# Altium footprint library Connector_Molex.PcbLib: 815 footprints (part 1 of 51)
Each footprint in its own frame and in the unit in brackets; x right, y up, seen from the top. Pads: shape width x height; smd on the part's side, far side on the other; paste and mask are expansions set on the pad; w line width, h text height; cw(c..) or ccw(c..) is an arc to the next point about the centre after c.
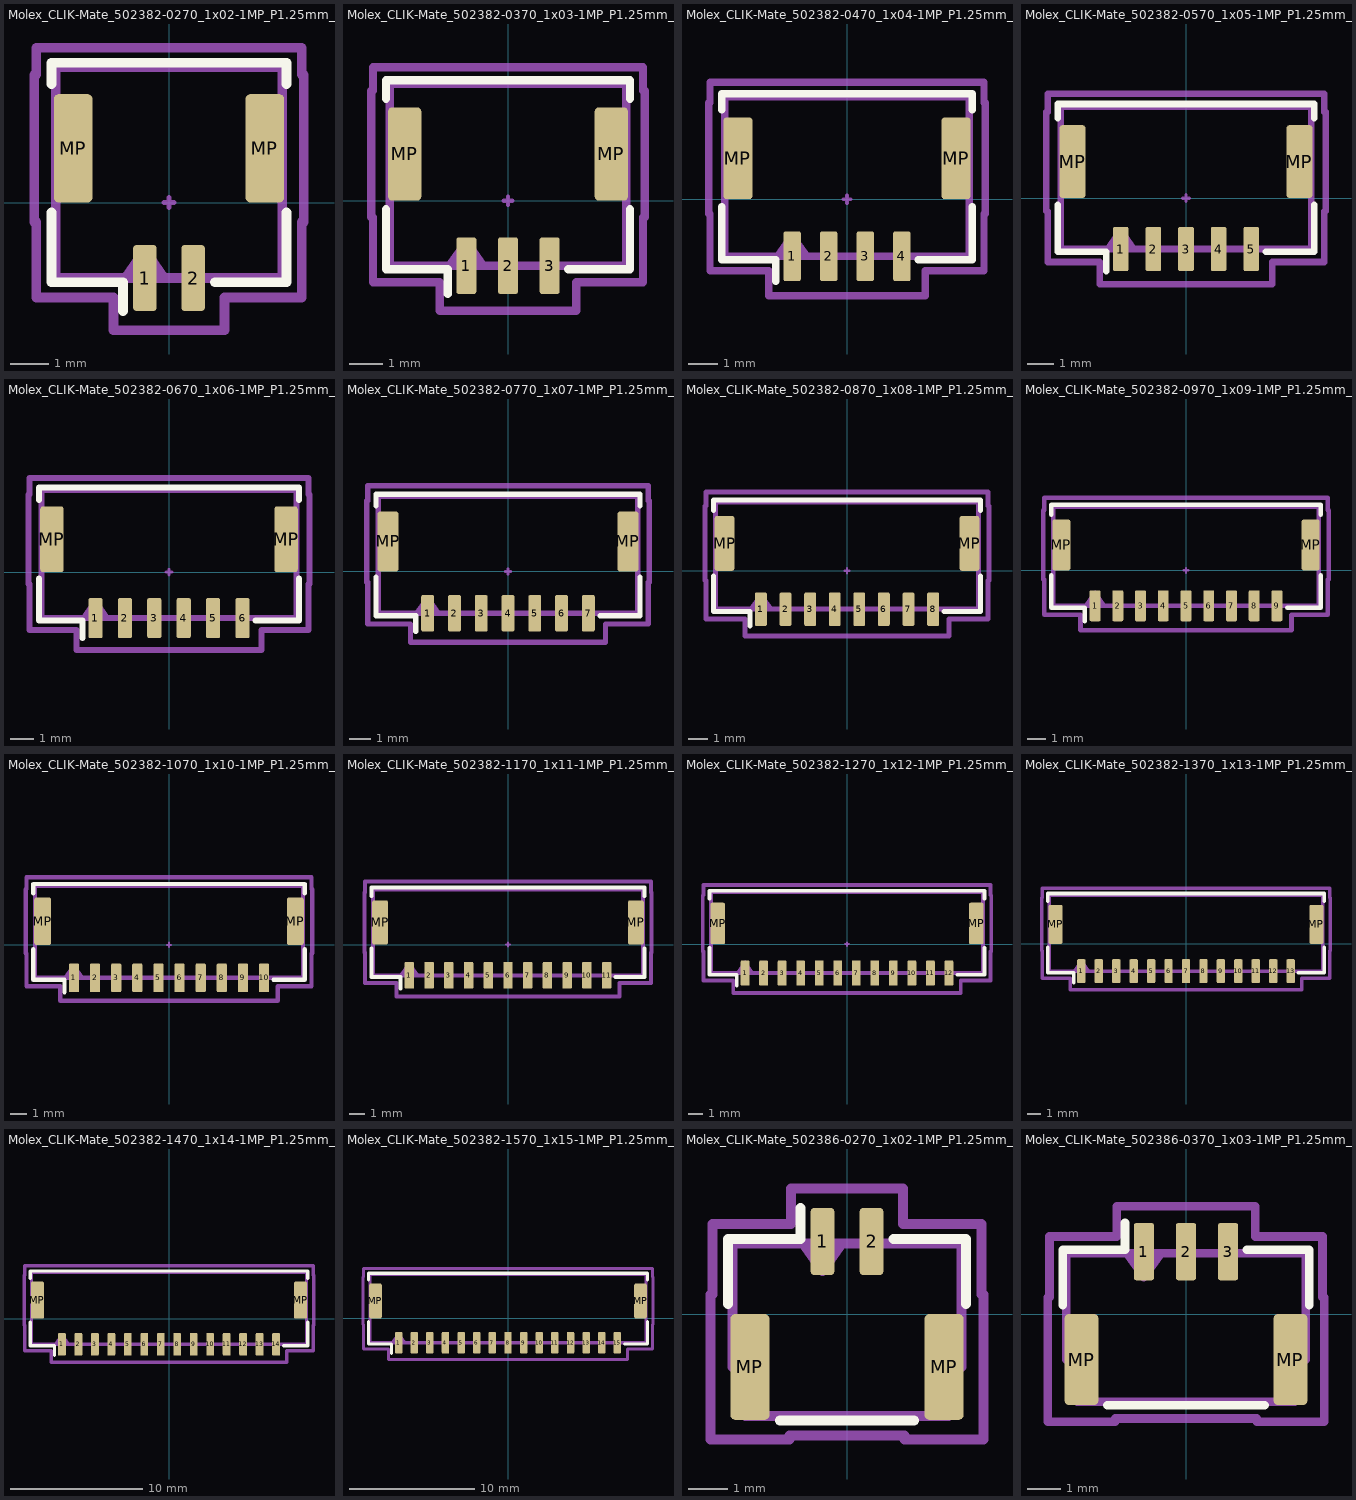
[diagram p0: the footprints below, top view; thin cyan lines are the x and y axes]

## Molex_CLIK-Mate_502382-0270_1x02-1MP_P1.25mm_Vertical [mm]
pads (4):
  rrect25% 0.6x1.7 smd: 1(-0.625,-1.95) 2(0.625,-1.95)
  rrect25% 1x2.8 smd: MP(-2.475,1.4) MP(2.475,1.4)
F.SilkS:
  lines w0.254: -3.035,-0.26 -3.035,-2.06 -1.185,-2.06 -1.185,-2.8 ; -3.035,3.06 -3.035,3.61 3.035,3.61 3.035,3.06 ; 1.185,-2.06 3.035,-2.06 3.035,-0.26
Top Component Center:
  lines w0.127: -0.127,0 0.127,0 ; 0,-0.127 0,0.127
Top Assembly:
  lines w0.254: -1.125,-1.95 -0.625,-1.243 -0.125,-1.95 ; -2.925,-1.95 -2.925,3.5 2.925,3.5 2.925,-1.95 -2.925,-1.95
  text "'.Designator'" at -4.047,-0.07 h1
Top Courtyard:
  lines w0.254: -3.48,-0.5 -3.48,3.3 -3.43,3.3 -3.43,4 3.43,4 3.43,3.3 3.48,3.3 3.48,-0.5 3.43,-0.5 3.43,-2.45 1.43,-2.45 1.43,-3.3 -1.43,-3.3 -1.43,-2.45 -3.43,-2.45 -3.43,-0.5 -3.48,-0.5
Top Designator:
  text ".Designator" at -3.584,0.005 h1.52

## Molex_CLIK-Mate_502382-0370_1x03-1MP_P1.25mm_Vertical [mm]
pads (5):
  rrect25% 0.6x1.7 smd: 1(-1.25,-1.95) 2(0,-1.95) 3(1.25,-1.95)
  rrect25% 1x2.8 smd: MP(-3.1,1.4) MP(3.1,1.4)
F.SilkS:
  lines w0.254: -3.66,-0.26 -3.66,-2.06 -1.81,-2.06 -1.81,-2.8 ; -3.66,3.06 -3.66,3.61 3.66,3.61 3.66,3.06 ; 1.81,-2.06 3.66,-2.06 3.66,-0.26
Top Component Center:
  lines w0.127: -0.127,0 0.127,0 ; 0,-0.127 0,0.127
Top Assembly:
  lines w0.254: -1.75,-1.95 -1.25,-1.243 -0.75,-1.95 ; -3.55,-1.95 -3.55,3.5 3.55,3.5 3.55,-1.95 -3.55,-1.95
  text "'.Designator'" at -4.047,-0.07 h1
Top Courtyard:
  lines w0.254: -4.1,-0.5 -4.1,3.3 -4.05,3.3 -4.05,4 4.05,4 4.05,3.3 4.1,3.3 4.1,-0.5 4.05,-0.5 4.05,-2.45 2.05,-2.45 2.05,-3.3 -2.05,-3.3 -2.05,-2.45 -4.05,-2.45 -4.05,-0.5 -4.1,-0.5
Top Designator:
  text ".Designator" at -3.434,0.005 h1.52

## Molex_CLIK-Mate_502382-0470_1x04-1MP_P1.25mm_Vertical [mm]
pads (6):
  rrect25% 0.6x1.7 smd: 1(-1.875,-1.95) 2(-0.625,-1.95) 3(0.625,-1.95) 4(1.875,-1.95)
  rrect25% 1x2.8 smd: MP(-3.725,1.4) MP(3.725,1.4)
F.SilkS:
  lines w0.254: -4.285,-0.26 -4.285,-2.06 -2.435,-2.06 -2.435,-2.8 ; -4.285,3.06 -4.285,3.61 4.285,3.61 4.285,3.06 ; 2.435,-2.06 4.285,-2.06 4.285,-0.26
Top Component Center:
  lines w0.127: -0.127,0 0.127,0 ; 0,-0.127 0,0.127
Top Assembly:
  lines w0.254: -2.375,-1.95 -1.875,-1.243 -1.375,-1.95 ; -4.175,-1.95 4.175,-1.95 4.175,3.5 -4.175,3.5 -4.175,-1.95
  text "'.Designator'" at -4.047,-0.07 h1
Top Courtyard:
  lines w0.254: -4.73,-0.5 -4.68,-0.5 -4.68,-2.45 -2.68,-2.45 -2.68,-3.3 2.68,-3.3 2.68,-2.45 4.68,-2.45 4.68,-0.5 4.73,-0.5 4.73,3.3 4.68,3.3 4.68,4 -4.68,4 -4.68,3.3 -4.73,3.3 -4.73,-0.5
Top Designator:
  text ".Designator" at -3.434,0.005 h1.52

## Molex_CLIK-Mate_502382-0570_1x05-1MP_P1.25mm_Vertical [mm]
pads (7):
  rrect25% 0.6x1.7 smd: 1(-2.5,-1.95) 2(-1.25,-1.95) 3(0,-1.95) 4(1.25,-1.95) 5(2.5,-1.95)
  rrect25% 1x2.8 smd: MP(-4.35,1.4) MP(4.35,1.4)
F.SilkS:
  lines w0.254: -4.91,-0.26 -4.91,-2.06 -3.06,-2.06 -3.06,-2.8 ; -4.91,3.06 -4.91,3.61 4.91,3.61 4.91,3.06 ; 3.06,-2.06 4.91,-2.06 4.91,-0.26
Top Component Center:
  lines w0.127: -0.127,0 0.127,0 ; 0,-0.127 0,0.127
Top Assembly:
  lines w0.254: -3,-1.95 -2.5,-1.243 -2,-1.95 ; -4.8,-1.95 4.8,-1.95 4.8,3.5 -4.8,3.5 -4.8,-1.95
  text "'.Designator'" at -4.047,-0.07 h1
Top Courtyard:
  lines w0.254: -5.35,-0.5 -5.3,-0.5 -5.3,-2.45 -3.3,-2.45 -3.3,-3.3 3.3,-3.3 3.3,-2.45 5.3,-2.45 5.3,-0.5 5.35,-0.5 5.35,3.3 5.3,3.3 5.3,4 -5.3,4 -5.3,3.3 -5.35,3.3 -5.35,-0.5
Top Designator:
  text ".Designator" at -3.434,0.005 h1.52

## Molex_CLIK-Mate_502382-0670_1x06-1MP_P1.25mm_Vertical [mm]
pads (8):
  rrect25% 0.6x1.7 smd: 1(-3.125,-1.95) 2(-1.875,-1.95) 3(-0.625,-1.95) 4(0.625,-1.95) 5(1.875,-1.95) 6(3.125,-1.95)
  rrect25% 1x2.8 smd: MP(-4.975,1.4) MP(4.975,1.4)
F.SilkS:
  lines w0.254: -5.535,-0.26 -5.535,-2.06 -3.685,-2.06 -3.685,-2.8 ; -5.535,3.06 -5.535,3.61 5.535,3.61 5.535,3.06 ; 3.685,-2.06 5.535,-2.06 5.535,-0.26
Top Component Center:
  lines w0.127: -0.127,0 0.127,0 ; 0,-0.127 0,0.127
Top Assembly:
  lines w0.254: -3.625,-1.95 -3.125,-1.243 -2.625,-1.95 ; -5.425,-1.95 -5.425,3.5 5.425,3.5 5.425,-1.95 -5.425,-1.95
  text "'.Designator'" at -4.047,-0.07 h1
Top Courtyard:
  lines w0.254: -5.98,-0.5 -5.98,3.3 -5.93,3.3 -5.93,4 5.93,4 5.93,3.3 5.98,3.3 5.98,-0.5 5.93,-0.5 5.93,-2.45 3.93,-2.45 3.93,-3.3 -3.93,-3.3 -3.93,-2.45 -5.93,-2.45 -5.93,-0.5 -5.98,-0.5
Top Designator:
  text ".Designator" at -3.434,0.005 h1.52

## Molex_CLIK-Mate_502382-0770_1x07-1MP_P1.25mm_Vertical [mm]
pads (9):
  rrect25% 0.6x1.7 smd: 1(-3.75,-1.95) 2(-2.5,-1.95) 3(-1.25,-1.95) 4(0,-1.95) 5(1.25,-1.95) 6(2.5,-1.95) 7(3.75,-1.95)
  rrect25% 1x2.8 smd: MP(-5.6,1.4) MP(5.6,1.4)
F.SilkS:
  lines w0.254: -6.16,-0.26 -6.16,-2.06 -4.31,-2.06 -4.31,-2.8 ; -6.16,3.06 -6.16,3.61 6.16,3.61 6.16,3.06 ; 4.31,-2.06 6.16,-2.06 6.16,-0.26
Top Component Center:
  lines w0.127: -0.127,0 0.127,0 ; 0,-0.127 0,0.127
Top Assembly:
  lines w0.254: -4.25,-1.95 -3.75,-1.243 -3.25,-1.95 ; -6.05,-1.95 6.05,-1.95 6.05,3.5 -6.05,3.5 -6.05,-1.95
  text "'.Designator'" at -4.047,-0.07 h1
Top Courtyard:
  lines w0.254: -6.6,-0.5 -6.55,-0.5 -6.55,-2.45 -4.55,-2.45 -4.55,-3.3 4.55,-3.3 4.55,-2.45 6.55,-2.45 6.55,-0.5 6.6,-0.5 6.6,3.3 6.55,3.3 6.55,4 -6.55,4 -6.55,3.3 -6.6,3.3 -6.6,-0.5
Top Designator:
  text ".Designator" at -3.434,0.005 h1.52

## Molex_CLIK-Mate_502382-0870_1x08-1MP_P1.25mm_Vertical [mm]
pads (10):
  rrect25% 0.6x1.7 smd: 1(-4.375,-1.95) 2(-3.125,-1.95) 3(-1.875,-1.95) 4(-0.625,-1.95) 5(0.625,-1.95) 6(1.875,-1.95) 7(3.125,-1.95) 8(4.375,-1.95)
  rrect25% 1x2.8 smd: MP(-6.225,1.4) MP(6.225,1.4)
F.SilkS:
  lines w0.254: -6.785,-0.26 -6.785,-2.06 -4.935,-2.06 -4.935,-2.8 ; -6.785,3.06 -6.785,3.61 6.785,3.61 6.785,3.06 ; 4.935,-2.06 6.785,-2.06 6.785,-0.26
Top Component Center:
  lines w0.127: -0.127,0 0.127,0 ; 0,-0.127 0,0.127
Top Assembly:
  lines w0.254: -4.875,-1.95 -4.375,-1.243 -3.875,-1.95 ; -6.675,-1.95 6.675,-1.95 6.675,3.5 -6.675,3.5 -6.675,-1.95
  text "'.Designator'" at -4.047,-0.07 h1
Top Courtyard:
  lines w0.254: -7.23,-0.5 -7.18,-0.5 -7.18,-2.45 -5.18,-2.45 -5.18,-3.3 5.18,-3.3 5.18,-2.45 7.18,-2.45 7.18,-0.5 7.23,-0.5 7.23,3.3 7.18,3.3 7.18,4 -7.18,4 -7.18,3.3 -7.23,3.3 -7.23,-0.5
Top Designator:
  text ".Designator" at -3.434,0.005 h1.52

## Molex_CLIK-Mate_502382-0970_1x09-1MP_P1.25mm_Vertical [mm]
pads (11):
  rrect25% 0.6x1.7 smd: 1(-5,-1.95) 2(-3.75,-1.95) 3(-2.5,-1.95) 4(-1.25,-1.95) 5(0,-1.95) 6(1.25,-1.95) 7(2.5,-1.95) 8(3.75,-1.95) 9(5,-1.95)
  rrect25% 1x2.8 smd: MP(-6.85,1.4) MP(6.85,1.4)
F.SilkS:
  lines w0.254: -7.41,-0.26 -7.41,-2.06 -5.56,-2.06 -5.56,-2.8 ; -7.41,3.06 -7.41,3.61 7.41,3.61 7.41,3.06 ; 5.56,-2.06 7.41,-2.06 7.41,-0.26
Top Component Center:
  lines w0.127: -0.127,0 0.127,0 ; 0,-0.127 0,0.127
Top Assembly:
  lines w0.254: -5.5,-1.95 -5,-1.243 -4.5,-1.95 ; -7.3,-1.95 -7.3,3.5 7.3,3.5 7.3,-1.95 -7.3,-1.95
  text "'.Designator'" at -4.047,-0.07 h1
Top Courtyard:
  lines w0.254: -7.85,-0.5 -7.85,3.3 -7.8,3.3 -7.8,4 7.8,4 7.8,3.3 7.85,3.3 7.85,-0.5 7.8,-0.5 7.8,-2.45 5.8,-2.45 5.8,-3.3 -5.8,-3.3 -5.8,-2.45 -7.8,-2.45 -7.8,-0.5 -7.85,-0.5
Top Designator:
  text ".Designator" at -7.618,-0.158 h1.52

## Molex_CLIK-Mate_502382-1070_1x10-1MP_P1.25mm_Vertical [mm]
pads (12):
  rrect25% 0.6x1.7 smd: 1(-5.625,-1.95) 2(-4.375,-1.95) 3(-3.125,-1.95) 4(-1.875,-1.95) 5(-0.625,-1.95) 6(0.625,-1.95) 7(1.875,-1.95) 8(3.125,-1.95) 9(4.375,-1.95) 10(5.625,-1.95)
  rrect25% 1x2.8 smd: MP(-7.475,1.4) MP(7.475,1.4)
F.SilkS:
  lines w0.254: -8.035,-0.26 -8.035,-2.06 -6.185,-2.06 -6.185,-2.8 ; -8.035,3.06 -8.035,3.61 8.035,3.61 8.035,3.06 ; 6.185,-2.06 8.035,-2.06 8.035,-0.26
Top Component Center:
  lines w0.127: -0.127,0 0.127,0 ; 0,-0.127 0,0.127
Top Assembly:
  lines w0.254: -6.125,-1.95 -5.625,-1.243 -5.125,-1.95 ; -7.925,-1.95 -7.925,3.5 7.925,3.5 7.925,-1.95 -7.925,-1.95
  text "'.Designator'" at -4.047,-0.07 h1
Top Courtyard:
  lines w0.254: -8.48,-0.5 -8.48,3.3 -8.43,3.3 -8.43,4 8.43,4 8.43,3.3 8.48,3.3 8.48,-0.5 8.43,-0.5 8.43,-2.45 6.43,-2.45 6.43,-3.3 -6.43,-3.3 -6.43,-2.45 -8.43,-2.45 -8.43,-0.5 -8.48,-0.5
Top Designator:
  text ".Designator" at -3.434,0.005 h1.52

## Molex_CLIK-Mate_502382-1170_1x11-1MP_P1.25mm_Vertical [mm]
pads (13):
  rrect25% 0.6x1.7 smd: 1(-6.25,-1.95) 2(-5,-1.95) 3(-3.75,-1.95) 4(-2.5,-1.95) 5(-1.25,-1.95) 6(0,-1.95) 7(1.25,-1.95) 8(2.5,-1.95) 9(3.75,-1.95) 10(5,-1.95) 11(6.25,-1.95)
  rrect25% 1x2.8 smd: MP(-8.1,1.4) MP(8.1,1.4)
F.SilkS:
  lines w0.254: -8.66,-0.26 -8.66,-2.06 -6.81,-2.06 -6.81,-2.8 ; -8.66,3.06 -8.66,3.61 8.66,3.61 8.66,3.06 ; 6.81,-2.06 8.66,-2.06 8.66,-0.26
Top Component Center:
  lines w0.127: -0.127,0 0.127,0 ; 0,-0.127 0,0.127
Top Assembly:
  lines w0.254: -6.75,-1.95 -6.25,-1.243 -5.75,-1.95 ; -8.55,-1.95 8.55,-1.95 8.55,3.5 -8.55,3.5 -8.55,-1.95
  text "'.Designator'" at -4.047,-0.07 h1
Top Courtyard:
  lines w0.254: -9.1,-0.5 -9.05,-0.5 -9.05,-2.45 -7.05,-2.45 -7.05,-3.3 7.05,-3.3 7.05,-2.45 9.05,-2.45 9.05,-0.5 9.1,-0.5 9.1,3.3 9.05,3.3 9.05,4 -9.05,4 -9.05,3.3 -9.1,3.3 -9.1,-0.5
Top Designator:
  text ".Designator" at -7.618,-0.158 h1.52

## Molex_CLIK-Mate_502382-1270_1x12-1MP_P1.25mm_Vertical [mm]
pads (14):
  rrect25% 0.6x1.7 smd: 1(-6.875,-1.95) 2(-5.625,-1.95) 3(-4.375,-1.95) 4(-3.125,-1.95) 5(-1.875,-1.95) 6(-0.625,-1.95) 7(0.625,-1.95) 8(1.875,-1.95) 9(3.125,-1.95) 10(4.375,-1.95) 11(5.625,-1.95) 12(6.875,-1.95)
  rrect25% 1x2.8 smd: MP(-8.725,1.4) MP(8.725,1.4)
F.SilkS:
  lines w0.254: -9.285,-0.26 -9.285,-2.06 -7.435,-2.06 -7.435,-2.8 ; -9.285,3.06 -9.285,3.61 9.285,3.61 9.285,3.06 ; 7.435,-2.06 9.285,-2.06 9.285,-0.26
Top Component Center:
  lines w0.127: -0.127,0 0.127,0 ; 0,-0.127 0,0.127
Top Assembly:
  lines w0.254: -7.375,-1.95 -6.875,-1.243 -6.375,-1.95 ; -9.175,-1.95 9.175,-1.95 9.175,3.5 -9.175,3.5 -9.175,-1.95
  text "'.Designator'" at -4.047,-0.07 h1
Top Courtyard:
  lines w0.254: -9.73,-0.5 -9.68,-0.5 -9.68,-2.45 -7.68,-2.45 -7.68,-3.3 7.68,-3.3 7.68,-2.45 9.68,-2.45 9.68,-0.5 9.73,-0.5 9.73,3.3 9.68,3.3 9.68,4 -9.68,4 -9.68,3.3 -9.73,3.3 -9.73,-0.5
Top Designator:
  text ".Designator" at -7.618,-0.158 h1.52

## Molex_CLIK-Mate_502382-1370_1x13-1MP_P1.25mm_Vertical [mm]
pads (15):
  rrect25% 0.6x1.7 smd: 1(-7.5,-1.95) 2(-6.25,-1.95) 3(-5,-1.95) 4(-3.75,-1.95) 5(-2.5,-1.95) 6(-1.25,-1.95) 7(0,-1.95) 8(1.25,-1.95) 9(2.5,-1.95) 10(3.75,-1.95) 11(5,-1.95) 12(6.25,-1.95) 13(7.5,-1.95)
  rrect25% 1x2.8 smd: MP(-9.35,1.4) MP(9.35,1.4)
F.SilkS:
  lines w0.254: -9.91,-0.26 -9.91,-2.06 -8.06,-2.06 -8.06,-2.8 ; -9.91,3.06 -9.91,3.61 9.91,3.61 9.91,3.06 ; 8.06,-2.06 9.91,-2.06 9.91,-0.26
Top Assembly:
  lines w0.254: -8,-1.95 -7.5,-1.243 -7,-1.95 ; -9.8,-1.95 9.8,-1.95 9.8,3.5 -9.8,3.5 -9.8,-1.95
  text "'.Designator'" at -4.047,-0.07 h1
Top Courtyard:
  lines w0.254: -10.35,-0.5 -10.3,-0.5 -10.3,-2.45 -8.3,-2.45 -8.3,-3.3 8.3,-3.3 8.3,-2.45 10.3,-2.45 10.3,-0.5 10.35,-0.5 10.35,3.3 10.3,3.3 10.3,4 -10.3,4 -10.3,3.3 -10.35,3.3 -10.35,-0.5
Top Designator:
  text ".Designator" at -7.618,-0.158 h1.52

## Molex_CLIK-Mate_502382-1470_1x14-1MP_P1.25mm_Vertical [mm]
pads (16):
  rrect25% 0.6x1.7 smd: 1(-8.125,-1.95) 2(-6.875,-1.95) 3(-5.625,-1.95) 4(-4.375,-1.95) 5(-3.125,-1.95) 6(-1.875,-1.95) 7(-0.625,-1.95) 8(0.625,-1.95) 9(1.875,-1.95) 10(3.125,-1.95) 11(4.375,-1.95) 12(5.625,-1.95) 13(6.875,-1.95) 14(8.125,-1.95)
  rrect25% 1x2.8 smd: MP(-9.975,1.4) MP(9.975,1.4)
F.SilkS:
  lines w0.254: -10.535,-0.26 -10.535,-2.06 -8.685,-2.06 -8.685,-2.8 ; -10.535,3.06 -10.535,3.61 10.535,3.61 10.535,3.06 ; 8.685,-2.06 10.535,-2.06 10.535,-0.26
Top Assembly:
  lines w0.254: -8.625,-1.95 -8.125,-1.243 -7.625,-1.95 ; -10.425,-1.95 10.425,-1.95 10.425,3.5 -10.425,3.5 -10.425,-1.95
  text "'.Designator'" at -4.047,-0.07 h1
Top Courtyard:
  lines w0.254: -10.98,-0.5 -10.93,-0.5 -10.93,-2.45 -8.93,-2.45 -8.93,-3.3 8.93,-3.3 8.93,-2.45 10.93,-2.45 10.93,-0.5 10.98,-0.5 10.98,3.3 10.93,3.3 10.93,4 -10.93,4 -10.93,3.3 -10.98,3.3 -10.98,-0.5
Top Designator:
  text ".Designator" at -7.618,-0.158 h1.52

## Molex_CLIK-Mate_502382-1570_1x15-1MP_P1.25mm_Vertical [mm]
pads (17):
  rrect25% 0.6x1.7 smd: 1(-8.75,-1.95) 2(-7.5,-1.95) 3(-6.25,-1.95) 4(-5,-1.95) 5(-3.75,-1.95) 6(-2.5,-1.95) 7(-1.25,-1.95) 8(0,-1.95) 9(1.25,-1.95) 10(2.5,-1.95) 11(3.75,-1.95) 12(5,-1.95) 13(6.25,-1.95) 14(7.5,-1.95) 15(8.75,-1.95)
  rrect25% 1x2.8 smd: MP(-10.6,1.4) MP(10.6,1.4)
F.SilkS:
  lines w0.254: -11.16,-0.26 -11.16,-2.06 -9.31,-2.06 -9.31,-2.8 ; -11.16,3.06 -11.16,3.61 11.16,3.61 11.16,3.06 ; 9.31,-2.06 11.16,-2.06 11.16,-0.26
Top Assembly:
  lines w0.254: -9.25,-1.95 -8.75,-1.243 -8.25,-1.95 ; -11.05,-1.95 11.05,-1.95 11.05,3.5 -11.05,3.5 -11.05,-1.95
  text "'.Designator'" at -4.047,-0.07 h1
Top Courtyard:
  lines w0.254: -11.6,-0.5 -11.55,-0.5 -11.55,-2.45 -9.55,-2.45 -9.55,-3.3 9.55,-3.3 9.55,-2.45 11.55,-2.45 11.55,-0.5 11.6,-0.5 11.6,3.3 11.55,3.3 11.55,4 -11.55,4 -11.55,3.3 -11.6,3.3 -11.6,-0.5
Top Designator:
  text ".Designator" at -7.618,-0.158 h1.52

## Molex_CLIK-Mate_502386-0270_1x02-1MP_P1.25mm_Horizontal [mm]
pads (4):
  rrect25% 0.6x1.7 smd: 1(-0.625,1.85) 2(0.625,1.85)
  rrect25% 1x2.7 smd: MP(-2.475,-1.35) MP(2.475,-1.35)
F.SilkS:
  lines w0.254: -3.035,0.26 -3.035,1.91 -1.185,1.91 -1.185,2.7 ; -1.715,-2.71 1.715,-2.71 ; 1.185,1.91 3.035,1.91 3.035,0.26
Top Assembly:
  lines w0.254: -1.125,1.8 -0.625,1.093 -0.125,1.8 ; -2.925,-1.35 -2.595,-1.35 -2.595,-2.6 2.595,-2.6 2.595,-1.35 2.925,-1.35 2.925,1.8 -2.925,1.8 -2.925,-1.35
  text "'.Designator'" at -4.047,-0.62 h1
Top Courtyard:
  lines w0.254: -3.48,-3.2 -1.47,-3.2 -1.47,-3.1 1.47,-3.1 1.47,-3.2 3.48,-3.2 3.48,0.5 3.43,0.5 3.43,2.3 1.43,2.3 1.43,3.2 -1.43,3.2 -1.43,2.3 -3.43,2.3 -3.43,0.5 -3.48,0.5 -3.48,-3.2
Top Designator:
  text ".Designator" at -7.768,-0.508 h1.52

## Molex_CLIK-Mate_502386-0370_1x03-1MP_P1.25mm_Horizontal [mm]
pads (5):
  rrect25% 0.6x1.7 smd: 1(-1.25,1.85) 2(0,1.85) 3(1.25,1.85)
  rrect25% 1x2.7 smd: MP(-3.1,-1.35) MP(3.1,-1.35)
F.SilkS:
  lines w0.254: -3.66,0.26 -3.66,1.91 -1.81,1.91 -1.81,2.7 ; -2.34,-2.71 2.34,-2.71 ; 1.81,1.91 3.66,1.91 3.66,0.26
Top Assembly:
  lines w0.254: -1.75,1.8 -1.25,1.093 -0.75,1.8 ; -3.55,-1.35 -3.22,-1.35 -3.22,-2.6 3.22,-2.6 3.22,-1.35 3.55,-1.35 3.55,1.8 -3.55,1.8 -3.55,-1.35
  text "'.Designator'" at -4.047,-0.62 h1
Top Courtyard:
  lines w0.254: -4.1,-3.2 -2.1,-3.2 -2.1,-3.1 2.1,-3.1 2.1,-3.2 4.1,-3.2 4.1,0.5 4.05,0.5 4.05,2.3 2.05,2.3 2.05,3.2 -2.05,3.2 -2.05,2.3 -4.05,2.3 -4.05,0.5 -4.1,0.5 -4.1,-3.2
Top Designator:
  text ".Designator" at -7.618,-0.508 h1.52